# EAGLE library part TDA8543 (library power_amp)
The TDA8543(T) is a one channel audio power amplifier for an output power of 2 W with an 8 ? load at a 7.5 V supply. The circuit contains a BTL amplifier with a complementary PNP-NPN output stage and standby/mute logic. The TDA8543T comes in a 16 pin SO package and the TDA8543 in a 16 pin DIP package.
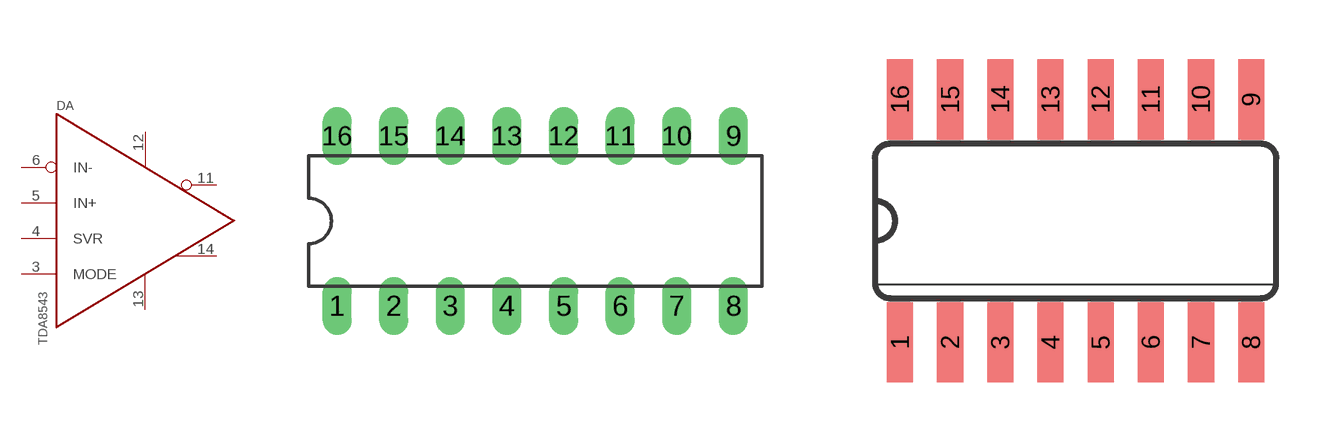
[diagram p0: symbol with the pads of DIL16; footprints DIL16, SO16]

Designator prefix DA

## TDA8543  [DIL16]
3  MODE  in
4  SVR  in
5  IN+  in
6  IN-  in
11  OUT-  out
12  VCC  pwr
13  GND  pwr
14  OUT+  out

## TDA8543T  [SO16]
Pads as for DIL16

## Footprint DIL16 (pad centres in mm)
Dual In Line Package
drill 0.8 long: 1 -8.89,-3.81; 2 -6.35,-3.81; 3 -3.81,-3.81; 4 -1.27,-3.81; 5 1.27,-3.81; 6 3.81,-3.81; 7 6.35,-3.81; 8 8.89,-3.81; 9 8.89,3.81; 10 6.35,3.81; 11 3.81,3.81; 12 1.27,3.81; 13 -1.27,3.81; 14 -3.81,3.81; 15 -6.35,3.81; 16 -8.89,3.81

## Footprint SO16 (pad centres in mm)
Small Outline Package
smd 0.66 x 2.032: 1 -4.445,-3.073; 2 -3.175,-3.073; 3 -1.905,-3.073; 4 -0.635,-3.073; 5 0.635,-3.073; 6 1.905,-3.073; 7 3.175,-3.073; 8 4.445,-3.073; 9 4.445,3.073; 10 3.175,3.073; 11 1.905,3.073; 12 0.635,3.073; 13 -0.635,3.073; 14 -1.905,3.073; 15 -3.175,3.073; 16 -4.445,3.073